# Altium footprint library PA251621025SALF.PcbLib: 1 footprints
Each footprint in its own frame and in the unit in brackets; x right, y up, seen from the top. Pads: shape width x height; smd on the part's side, far side on the other; paste and mask are expansions set on the pad; w line width, h text height; cw(c..) or ccw(c..) is an arc to the next point about the centre after c.
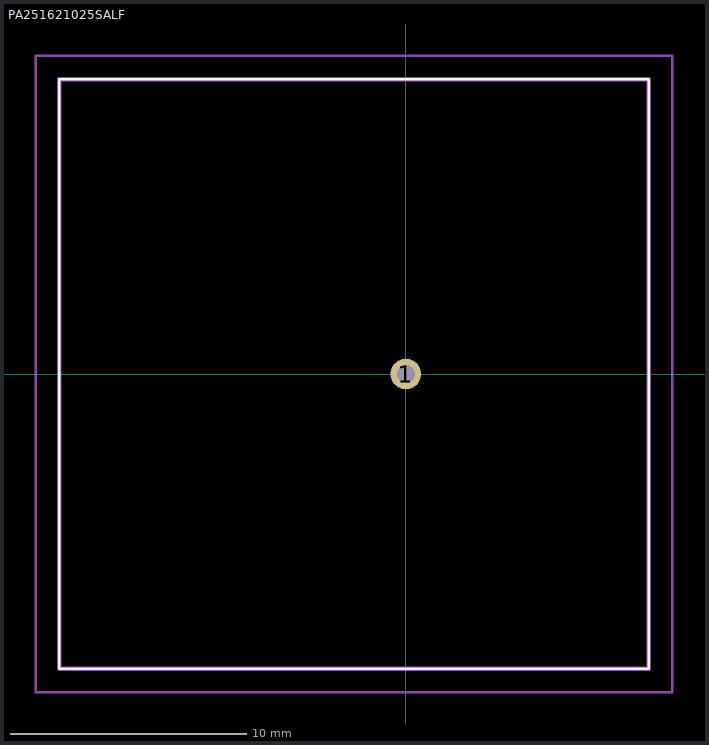
[diagram p0: the footprint, top view; thin cyan lines are the x and y axes]

## PA251621025SALF [mm]
pads (1):
  round 1.303 hole 0.76: 1(0,0)
Top Overlay:
  lines w0.1: -14.7,-12.5 -14.7,12.5 10.3,12.5 10.3,-12.5 -14.7,-12.5
Mechanical 13:
  lines w0.2: -14.7,-12.5 -14.7,12.5 10.3,12.5 10.3,-12.5 -14.7,-12.5
Mechanical 15:
  lines w0.1: -15.7,-13.5 -15.7,13.5 11.3,13.5 11.3,-13.5 -15.7,-13.5
3D body "antenna gps.STEP": height 5, standoff -3, extent -14.786,-12.5 10.214,12.5